# Altium schematic symbol library Audio ICs.SchLib: 3 symbols
Pins are listed as number, name and electrical type; pins without a type are passive.

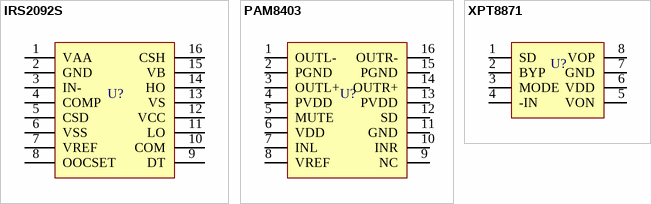
[diagram p0: symbols IRS2092S to XPT8871]

## IRS2092S
designator U?  (value not drawn)
Protected digital audio amplifier
footprint SOP-16
pins: 1 VAA, 2 GND, 3 IN-, 4 COMP, 5 CSD, 6 VSS, 7 VREF, 8 OOCSET, 9 DT, 10 COM, 11 LO, 12 VCC, 13 VS, 14 HO, 15 VB, 16 CSH

## PAM8403
designator U?  (value not drawn)
Audio Power Amplifier D Class
footprint SOP-16
pins: 1 OUTL-, 2 PGND, 3 OUTL+, 4 PVDD, 5 MUTE, 6 VDD, 7 INL, 8 VREF, 9 NC, 10 INR, 11 GND, 12 SD, 13 PVDD, 14 OUTR+, 15 PGND, 16 OUTR-

## XPT8871
designator U?  (value not drawn)
Audio Power Amplifier AB/D Class
footprint SOP-8
pins: 1 SD, 2 BYP, 3 MODE, 4 -IN, 5 VON, 6 VDD, 7 GND, 8 VOP